# EAGLE library part PRTR5V0U4D (library pimoroni-ics)
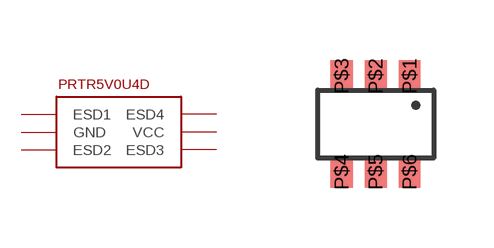
[diagram p17: symbol with the pads of TSOP-6; footprint TSOP-6]

Designator prefix -

## PRTR5V0U4D  [TSOP-6]
P$1  ESD1
P$2  GND
P$3  ESD2
P$4  ESD3
P$5  VCC
P$6  ESD4

## Footprint TSOP-6 (pad centres in mm)
smd 0.55 x 0.8: P$1 2.4,0.35; P$2 1.55,0.35; P$3 0.7,0.35; P$4 0.7,-2.05; P$5 1.55,-2.05; P$6 2.4,-2.05